# EAGLE library part STM32F4DISCOVERY (library st)
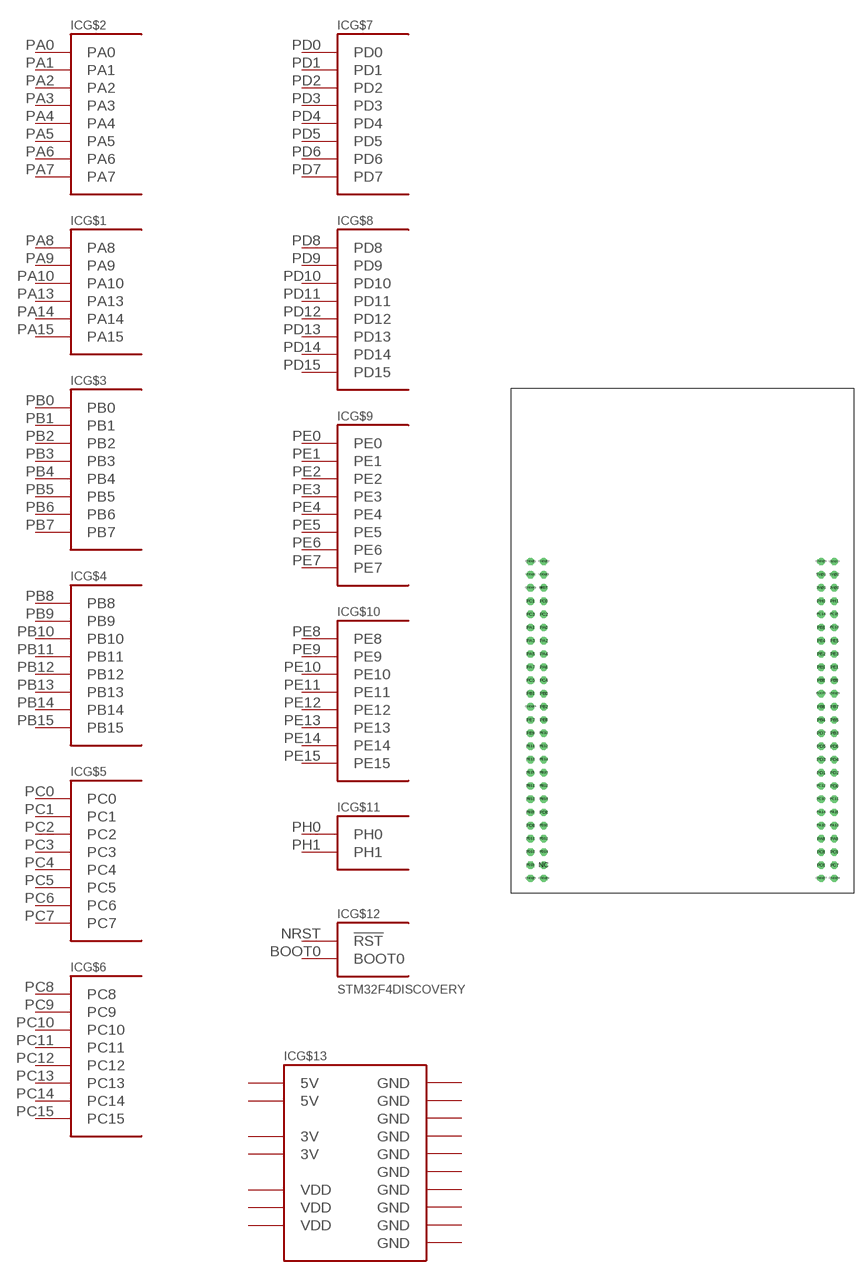
[diagram p1: symbol with the pads of STM32F4DISCOVERY; footprint STM32F4DISCOVERY]

Designator prefix IC; gates G$1=STM32F4DISC_PORTA_H G$2=STM32F4DISC_PORTA_L G$3=STM32F4DISC_PORTB_L G$4=STM32F4DISC_PORTB_H G$5=STM32F4DISC_PORTC_L G$6=STM32F4DISC_PORTC_H G$7=STM32F4DISC_PORTD_L G$8=STM32F4DISC_PORTD_H G$9=STM32F4DISC_PORTE_L G$10=STM32F4DISC_PORTE_H G$11=STM32F4DISC_PORTH G$12=STM32F4DISC_RESET G$13=STM32F4DISC_SUPPLY

## STM32F4DISCOVERY  [STM32F4DISCOVERY]
3V@1  G$13:3V  pwr
3V@2  G$13:3V  pwr
5V@1  G$13:5V
5V@2  G$13:5V  pwr
BOOT0  G$12:BOOT0  in
GND@1  G$13:GND
GND@2  G$13:GND
GND@3  G$13:GND
GND@4  G$13:GND
GND@5  G$13:GND
GND@6  G$13:GND
GND@7  G$13:GND
GND@8  G$13:GND
GND@9  G$13:GND
GND@10  G$13:GND
NRST  G$12:!RST  in
PA0  G$2:PA0
PA1  G$2:PA1
PA2  G$2:PA2
PA3  G$2:PA3
PA4  G$2:PA4
PA5  G$2:PA5
PA6  G$2:PA6
PA7  G$2:PA7
PA8  G$1:PA8
PA9  G$1:PA9
PA10  G$1:PA10
PA13  G$1:PA13
PA14  G$1:PA14
PA15  G$1:PA15
PB0  G$3:PB0
PB1  G$3:PB1
PB2  G$3:PB2
PB3  G$3:PB3
PB4  G$3:PB4
PB5  G$3:PB5
PB6  G$3:PB6
PB7  G$3:PB7
PB8  G$4:PB8
PB9  G$4:PB9
PB10  G$4:PB10
PB11  G$4:PB11
PB12  G$4:PB12
PB13  G$4:PB13
PB14  G$4:PB14
PB15  G$4:PB15
PC0  G$5:PC0
PC1  G$5:PC1
PC2  G$5:PC2
PC3  G$5:PC3
PC4  G$5:PC4
PC5  G$5:PC5
PC6  G$5:PC6
PC7  G$5:PC7
PC8  G$6:PC8
PC9  G$6:PC9
PC10  G$6:PC10
PC11  G$6:PC11
PC12  G$6:PC12
PC13  G$6:PC13
PC14  G$6:PC14
PC15  G$6:PC15
PD0  G$7:PD0
PD1  G$7:PD1
PD2  G$7:PD2
PD3  G$7:PD3
PD4  G$7:PD4
PD5  G$7:PD5
PD6  G$7:PD6
PD7  G$7:PD7
PD8  G$8:PD8
PD9  G$8:PD9
PD10  G$8:PD10
PD11  G$8:PD11
PD12  G$8:PD12
PD13  G$8:PD13
PD14  G$8:PD14
PD15  G$8:PD15
PE0  G$9:PE0
PE1  G$9:PE1
PE2  G$9:PE2
PE3  G$9:PE3
PE4  G$9:PE4
PE5  G$9:PE5
PE6  G$9:PE6
PE7  G$9:PE7
PE8  G$10:PE8
PE9  G$10:PE9
PE10  G$10:PE10
PE11  G$10:PE11
PE12  G$10:PE12
PE13  G$10:PE13
PE14  G$10:PE14
PE15  G$10:PE15
PH0  G$11:PH0
PH1  G$11:PH1
VDD@1  G$13:VDD  pwr
VDD@2  G$13:VDD  pwr
VDD@3  G$13:VDD  pwr

## Footprint STM32F4DISCOVERY (pad centres in mm)
drill 0.914 octagon: 3V@1 26.67,10.16; 3V@2 29.21,10.16; 5V@1 26.67,12.7; 5V@2 29.21,12.7; BOOT0 26.67,-10.16; GND@1 -29.21,15.24; GND@2 -26.67,15.24; GND@3 -29.21,10.16; GND@4 -29.21,-12.7; GND@5 -29.21,-45.72; GND@6 -26.67,-45.72; GND@7 26.67,-45.72; GND@8 29.21,-45.72; GND@9 26.67,15.24; GND@10 29.21,15.24; NC -26.67,-43.18; NRST -26.67,10.16; PA0 -26.67,2.54; PA1 -29.21,2.54; PA2 -26.67,0; PA3 -29.21,0; PA4 -26.67,-2.54; PA5 -29.21,-2.54; PA6 -26.67,-5.08; PA7 -29.21,-5.08; PA8 26.67,-38.1; PA9 29.21,-38.1; PA10 26.67,-35.56; PA13 29.21,-35.56; PA14 26.67,-33.02; PA15 29.21,-33.02; PB0 -26.67,-10.16; PB1 -29.21,-10.16; PB2 -26.67,-12.7; PB3 29.21,-17.78; PB4 26.67,-15.24; PB5 29.21,-15.24; PB6 26.67,-12.7; PB7 29.21,-12.7; PB8 26.67,-7.62; PB9 29.21,-7.62; PB10 -26.67,-25.4; PB11 -29.21,-27.94; PB12 -26.67,-27.94; PB13 -29.21,-30.48; PB14 -26.67,-30.48; PB15 -29.21,-33.02; PC0 -26.67,7.62; PC1 -29.21,7.62; PC2 -26.67,5.08; PC3 -29.21,5.08; PC4 -26.67,-7.62; PC5 -29.21,-7.62; PC6 26.67,-43.18; PC7 29.21,-43.18; PC8 26.67,-40.64; PC9 29.21,-40.64; PC10 26.67,-30.48; PC11 29.21,-30.48; PC12 26.67,-27.94; PC13 29.21,2.54; PC14 26.67,5.08; PC15 29.21,5.08; PD0 29.21,-27.94; PD1 26.67,-25.4; PD2 29.21,-25.4; PD3 26.67,-22.86; PD4 29.21,-22.86; PD5 26.67,-20.32; PD6 29.21,-20.32; PD7 26.67,-17.78; PD8 -26.67,-33.02; PD9 -29.21,-35.56; PD10 -26.67,-35.56; PD11 -29.21,-38.1; PD12 -26.67,-38.1; PD13 -29.21,-40.64; PD14 -26.67,-40.64; PD15 -29.21,-43.18; PE0 26.67,-5.08; PE1 29.21,-5.08; PE2 26.67,-2.54; PE3 29.21,-2.54; PE4 26.67,0; PE5 29.21,0; PE6 26.67,2.54; PE7 -29.21,-15.24; PE8 -26.67,-15.24; PE9 -29.21,-17.78; PE10 -26.67,-17.78; PE11 -29.21,-20.32; PE12 -26.67,-20.32; PE13 -29.21,-22.86; PE14 -26.67,-22.86; PE15 -29.21,-25.4; PH0 26.67,7.62; PH1 29.21,7.62; VDD@1 -29.21,12.7; VDD@2 -26.67,12.7; VDD@3 29.21,-10.16